# Altium schematic symbol library CGA4C2C0G1H103J060AA.SchLib: 1 symbol
Pins are listed as number, name and electrical type; pins without a type are passive.

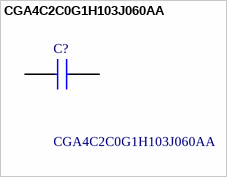
[diagram p0: symbol CGA4C2C0G1H103J060AA]

## CGA4C2C0G1H103J060AA
designator C?
TDK 2012 CGA 10nF Ceramic Multilayer Capacitor, 50 V dc, +125C, C0G Dielectric, +/-5%; Geometry.Height: 0.75mm; Manufacturer_Name: TDK; Manufacturer_Part_Number: CGA4C2C0G1H103J060AA; Mouser Part Number: 810-CGA4C2C0G1H103J; Mouser Price/Stock: https://www.mouser.co.uk/ProductDetail/TDK/CGA4C2C0G1H103J060AA?qs=FxQuwy19cyC9M6v0nMqjhA%3D%3D; Arrow Part Number: CGA4C2C0G1H103J060AA; Arrow Price/Stock: https://www.arrow.com/en/products/cga4c2c0g1h103j060aa/tdk?region=nac; Datasheet Link: http://docs-europe.electrocomponents.com/webdocs/14e9/0900766b814e9125.pdf
footprint CAPC2012X75N
pins: 1, 2